# Altium integrated library Diode_SMD.IntLib: 11 symbols
Pins are listed as number, name and electrical type; pins without a type are passive.

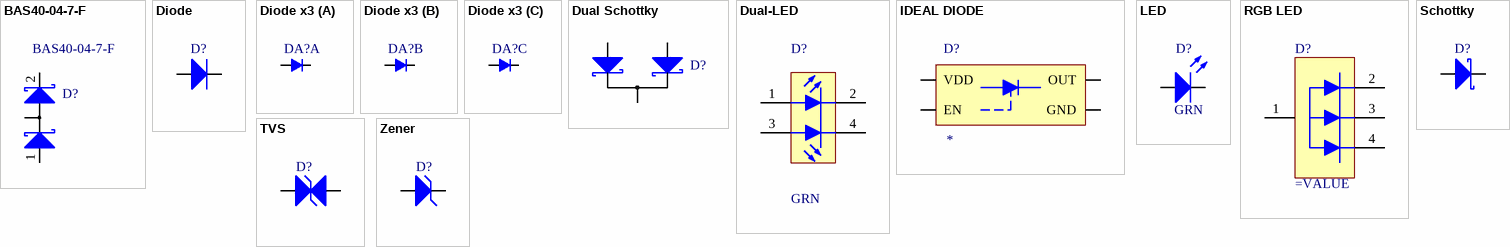
[diagram p0: symbols BAS40-04-7-F to Zener]

## BAS40-04-7-F
designator D?
DIODE SCHOTTKY 40V 350MW SOT23-3; Manufacturer: Diodes; Forward Current: 200mA; Peak Reverse Current: 200nA; Forward Voltage: 1V; Reverse Recovery Time: 5ns; Max Forward Surge Current (Ifsm): 600mA; Capacitance: 5pF; Supplier 1: Digi-Key; Manufacturer Part Number: BAS40-04-7-F; RoHS: Yes; Category: Rectifier Diodes; Stock 1: 375789; Pricing 1: 1=0,21000, 10=0,17400, 25=0,14560, 100=0,07110, 250=0,06996, 500=0,05930, 1000=0,04121 (USD); Mount: Surface Mount; Case/Package: SOT-23; Number of Pins: 3; Weight: 0.000282oz; Contact Plating: Tin,Matte; Min Operating Temperature: -55°C; Max Operating Temperature: 125°C; Package Quantity: 3000; Packaging: Tape and Reel; Max Power Dissipation: 350mW; Average Rectified Current: 200mA; Max Repetitive Reverse Voltage (Vrrm): 40V; Peak Non-Repetitive Surge Current: 600mA; Power Dissipation: 350mW; Termination: SMD/SMT; Power Rating: 350mW; Max Reverse Voltage (DC): 40V; Length: 3.05mm; Height: 1mm; Width: 1.4mm; Radiation Hardening: No; REACH SVHC: No SVHC; Lead Free: Lead Free; ComponentLink1URL: https://datasheet.ciiva.com/25946/ds11006-25946962.pdf?src-supplier=Avnet+Europe; ComponentLink1Description: https://datasheet.ciiva.com/25946/ds11006-25946962.pdf?src-supplier=Avnet+Europe; ComponentLink2URL: https://datasheet.ciiva.com/8303/ds11006-8303212.pdf?src-supplier=Avnet; ComponentLink2Description: https://datasheet.ciiva.com/8303/ds11006-8303212.pdf?src-supplier=Avnet; ComponentLink3URL: https://datasheet.ciiva.com/22695/1911827-22695788.pdf?src-supplier=Element14; ComponentLink3Description: https://datasheet.ciiva.com/22695/1911827-22695788.pdf?src-supplier=Element14; ComponentLink4URL: https://datasheet.ciiva.com/1177/ds11006-1177656.pdf?src-supplier=Element14; ComponentLink4Description: https://datasheet.ciiva.com/1177/ds11006-1177656.pdf?src-supplier=Element14; ComponentLink5URL: https://datasheet.ciiva.com/16379/ds11006-16379065.pdf?src-supplier=Future+Electronics; ComponentLink5Description: https://datasheet.ciiva.com/16379/ds11006-16379065.pdf?src-supplier=Future+Electronics; ComponentLink6URL: https://datasheet.ciiva.com/4715/ds11006-4715662.pdf?src-supplier=Mouser; ComponentLink6Description: https://datasheet.ciiva.com/4715/ds11006-4715662.pdf?src-supplier=Mouser; Value: BAS40-04-7-F; Supplier Part Number 1: BAS40-04FDICT-ND
footprint SOT23_N (SOT23, 3-Leads, Body 2.9x1.3mm, Pitch 0.95mm, Lead Span 2.3mm - Reverse Pinning, IPC Medium Density)
pins: 1 A, 2 K, 3 A

## Diode
designator D?
Default Diode; Populated: Yes; ROHS: Yes; LifeCycle: Checked
footprint DO214AA
footprint DO214AC
footprint DO214AC-W
footprint DO214BA
footprint GF1
footprint MELF-MLL41
footprint MICROMELF-R
footprint MICROMELF-W
footprint MINIMELF
footprint SC79_INFINEON
footprint SCD80_INFINEON
footprint SMB
footprint SMC
footprint SOD80C
footprint SOD106-R
footprint SOD106-W
footprint SOD106A-R
footprint SOD110-R
footprint SOD110-W
footprint SOD-123
footprint SOD-123FL
footprint SOD-323
footprint SOD-323F
footprint SOD-523
footprint D0603 (Chip Diode 2-Leads, Body 1,60x0,80mm, IPC Medium Density)
footprint D0805 (Chip Diode, 2-Leads, Body 2,00x1,25mm, IPC Medium Density)
footprint D1206 (Chip Diode, 2-Leads, Body 3,20x1,60mm, IPC Medium Density)
footprint DO216AA
footprint SMA
footprint DO222AA (DO216AA ST-MITE)
footprint DO214AB
footprint SOD-128
footprint SOD923
footprint DO-219AB (SMF) (SODFL, 2-Leads, Body 1.80x3.70mm, IPC Medium Density)
footprint DPAK (D-PAK, 3-Pads, Body 6.21x6.73mm (max), IPC Medium Density)
footprint D2PAK_N (D2-PAK, 4-Leads, Body 8.8x10.4mm, Pitch 2.54mm, Lead Span 15.1mm, IPC Medium Density)
footprint SOD-123F
pins: A, K

## Diode x3
designator DA?
Default Diode Array x3; Populated: Yes; ROHS: Yes; LifeCycle: Checked
footprint SOT363 (SOT363, 6-Leads, Body 2.15x2.10mm, Pitch 0.65mm, IPC Medium Density)
part A pins: 1 A1, 6 C1
part B pins: 2 A2, 5 C2
part C pins: 3 A3, 4 C3

## Dual Schottky
designator D?
Dual Schottky; Populated: Yes; ROHS: Yes; LifeCycle: Checked
footprint SOT23_N (SOT23, 3-Leads, Body 2.9x1.3mm, Pitch 0.95mm, Lead Span 2.3mm - Reverse Pinning, IPC Medium Density)
pins: 1 A2, 2 A1, 3 KC

## Dual-LED
designator D?, comment GRN
Dual LED Diode; Populated: Yes; Value: GRN; ROHS: Yes; LifeCycle: Checked
footprint LED_1210
footprint 1206- RED/GREEN
pins: 1 A1, 2 K1, 3 A2, 4 K2

## IDEAL DIODE
designator D?
footprint SOT23-5 (SOT23, 5-Leads, Body 2,90x2,45mm, Pitch 0,95mm, IPC Medium Density)
pins: 1 VDD, 2 GND, 3 EN, 5 OUT

## LED
designator D?, comment GRN
LED Diode; Populated: Yes; Value: GRN; ROHS: Yes; LifeCycle: Checked
footprint LED1608L(0603)
footprint LED-0603-TTW
footprint LED_0603
footprint LED_0805
footprint SMART-LED
footprint LED_1206
footprint SMARTLED-TTW
footprint LED_0402_BLUE
footprint LED_0402_GREEN
footprint LED_0402_ORANGE
footprint LED_0402_RED
footprint LED_0402_YELLOW
footprint LED_0603_BLUE
footprint LED_0603_GREEN
footprint LED_0603_RED
footprint LED_0603_YELLOW
footprint LED_0805_BLUE
footprint LED_0805_GREEN
footprint LED_0603_ORANGE
footprint LED_0805_ORANGE
footprint LED_0805_RED
footprint LED_0805_YELLOW
footprint LED_1206_BLUE
footprint LED_1206_GREEN
footprint LED_1206_RED
footprint CLED-1
footprint 4-PLCC
footprint Model Name (Model Description)
footprint LED_1206_GREEN RIGHT
footprint LED_1206_RED RIGHT
footprint LED_0603ANG_GREEN
pins: A, K

## RGB LED
designator D?
footprint 4-PLCC - 2x2
footprint B3173BGR-20C0001Q3U1930
footprint APHF1608SEEQBDZGKC
pins: 1 A, 2 KB, 3 KG, 4 KR

## Schottky
designator D?
Schottky Diode; Populated: Yes; ROHS: Yes; LifeCycle: Checked
footprint DO214AA
footprint DO214AC
footprint DO214AC-W
footprint DO214BA
footprint GF1
footprint MELF-MLL41
footprint MICROMELF-R
footprint MICROMELF-W
footprint MINIMELF
footprint SC79_INFINEON
footprint SCD80_INFINEON
footprint SMB
footprint SMC
footprint SOD80C
footprint SOD106-R
footprint SOD106-W
footprint SOD106A-R
footprint SOD110-R
footprint SOD110-W
footprint SOD-123
footprint SOD-323
footprint SOD-123FL
footprint SOD-323F
footprint SOD-523
footprint D0603 (Chip Diode 2-Leads, Body 1,60x0,80mm, IPC Medium Density)
footprint D0805 (Chip Diode, 2-Leads, Body 2,00x1,25mm, IPC Medium Density)
footprint D1206 (Chip Diode, 2-Leads, Body 3,20x1,60mm, IPC Medium Density)
footprint SOD-128
footprint SOD923
footprint DO-219AB (SMF) (SODFL, 2-Leads, Body 1.80x3.70mm, IPC Medium Density)
footprint D2PAK_N (D2-PAK, 4-Leads, Body 8.8x10.4mm, Pitch 2.54mm, Lead Span 15.1mm, IPC Medium Density)
footprint SOD-123F
pins: A, K

## TVS
designator D?
TVS Diode; Populated: Yes; ROHS: Yes; LifeCycle: Checked
footprint DO214AA
footprint DO214AC
footprint DO214AC-W
footprint DO214BA
footprint GF1
footprint MELF-MLL41
footprint MICROMELF-R
footprint MICROMELF-W
footprint MINIMELF
footprint SC79_INFINEON
footprint SCD80_INFINEON
footprint SMB
footprint SMC
footprint SOD80C
footprint SOD106-R
footprint SOD106-W
footprint SOD106A-R
footprint SOD110-R
footprint SOD110-W
footprint SOD-123
footprint SOD-123FL
footprint SOD-323
footprint SOD-323F
footprint SOD-523
footprint D0603 (Chip Diode 2-Leads, Body 1,60x0,80mm, IPC Medium Density)
footprint D0805 (Chip Diode, 2-Leads, Body 2,00x1,25mm, IPC Medium Density)
footprint D1206 (Chip Diode, 2-Leads, Body 3,20x1,60mm, IPC Medium Density)
footprint SOD-128
footprint DO-219AB (SMF) (SODFL, 2-Leads, Body 1.80x3.70mm, IPC Medium Density)
footprint SOD-123F
pins: A, K

## Zener
designator D?
Zener Diode; Populated: Yes; ROHS: Yes; LifeCycle: Checked
footprint DO214AA
footprint DO214AC
footprint DO214AC-W
footprint DO214BA
footprint GF1
footprint MELF-MLL41
footprint MICROMELF-R
footprint MICROMELF-W
footprint MINIMELF
footprint SC79_INFINEON
footprint SCD80_INFINEON
footprint SMB
footprint SMC
footprint SOD80C
footprint SOD106-R
footprint SOD106-W
footprint SOD106A-R
footprint SOD110-R
footprint SOD110-W
footprint SOD-123
footprint SOD-123FL
footprint SOD-323
footprint SOD-323F
footprint SOD-523
footprint D0603 (Chip Diode 2-Leads, Body 1,60x0,80mm, IPC Medium Density)
footprint D0805 (Chip Diode, 2-Leads, Body 2,00x1,25mm, IPC Medium Density)
footprint D1206 (Chip Diode, 2-Leads, Body 3,20x1,60mm, IPC Medium Density)
footprint SOD-128
footprint SOD923
footprint DO-219AB (SMF) (SODFL, 2-Leads, Body 1.80x3.70mm, IPC Medium Density)
footprint SOD-123F
pins: A, K